# Altium schematic symbol library IND_106-6.SchLib: 1 symbol
Pins are listed as number, name and electrical type; pins without a type are passive.

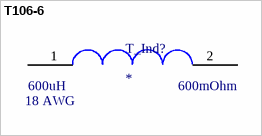
[diagram p0: symbol T106-6]

## T106-6
designator T_Ind?  Capacity: 18 AWG  Impedance: 600mOhm  Indutance: 600uH
A (nH/N^2): 11,6
footprint PCBComponent_1
pins: 1, 2